# Altium schematic symbol library IPEX.SchLib: 1 symbol
Pins are listed as number, name and electrical type; pins without a type are passive.

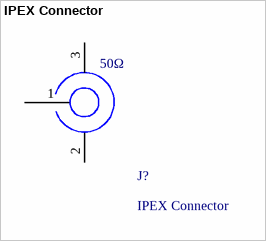
[diagram p0: symbol IPEX Connector]

## IPEX Connector
designator J?  Impedance: 50Ω
U.FL (UMCC), IPEX MHF1 Connector Receptacle, Male Pin 50Ohm Surface Mount Solder; Manufacturer 1: Taoglas Limited; Manufacturer 1 PN: RECE.20279.001E.01; ComponentLink1Description: Datasheet; ComponentLink1URL: https://cdn.taoglas.com/datasheets/RECE.20279.001E.01.pdf; Digikey PN: 931-1107-1-ND; Mouser PN: 960-RECE20279001E01
footprint IPEX Connector (U.FL (UMCC), IPEX MHF1 Connector Receptacle, Male Pin 50Ohm Surface Mount Solder)
pins: 1 (power), 2 (power), 3 (power)